# EAGLE library part SNES_MULTIAV (library snes_div)
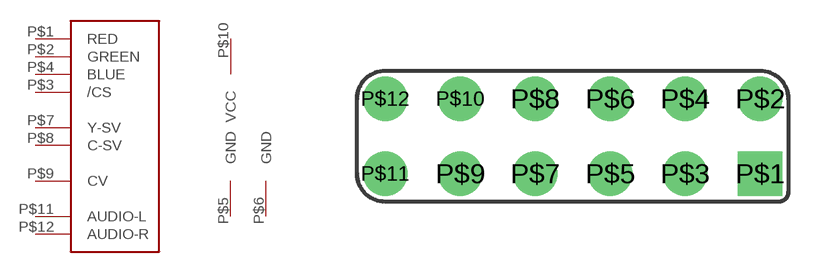
[diagram p6: symbol with the pads of SNES_MULTIAV; footprint SNES_MULTIAV]

Designator prefix -; gates G$1=SNES_MULTIAV G$2=PWR G$3=PWR_MULTIAV_GND

## SNES_MULTIAV  [SNES_MULTIAV]
P$1  G$1:RED
P$2  G$1:GREEN
P$3  G$1:/CS
P$4  G$1:BLUE
P$5  G$2:GND
P$6  G$3:GND
P$7  G$1:Y-SV
P$8  G$1:C-SV
P$9  G$1:CV
P$10  G$2:VCC
P$11  G$1:AUDIO-L
P$12  G$1:AUDIO-R

## Footprint SNES_MULTIAV (pad centres in mm)
drill 1 square: P$1 6.35,-1.27
drill 1: P$2 6.35,1.27; P$3 3.81,-1.27; P$4 3.81,1.27; P$5 1.27,-1.27; P$6 1.27,1.27; P$7 -1.27,-1.27; P$8 -1.27,1.27; P$9 -3.81,-1.27; P$10 -3.81,1.27; P$11 -6.35,-1.27; P$12 -6.35,1.27